# Altium schematic symbol library SN74HCT273.SchLib: 1 symbol
Pins are listed as number, name and electrical type; pins without a type are passive.

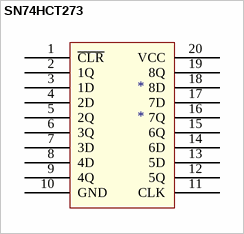
[diagram p0: symbol SN74HCT273]

## SN74HCT273
designator *
pins: 1 ~{CLR}, 2 1Q, 3 1D, 4 2D, 5 2Q, 6 3Q, 7 3D, 8 4D, 9 4Q, 10 GND (power), 11 CLK, 12 5Q, 13 5D, 14 6D, 15 6Q, 16 7Q (power), 17 7D, 18 8D, 19 8Q, 20 VCC (power)